# Altium schematic symbol library PIC16(L)F1526_7.Schlib: 1 symbol
Pins are listed as number, name and electrical type; pins without a type are passive.

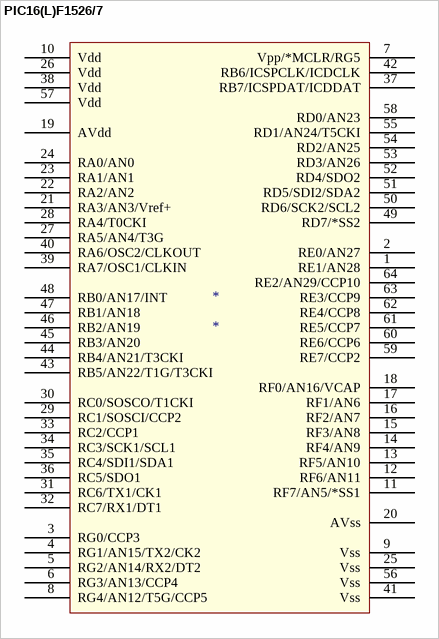
[diagram p0: symbol PIC16(L)F1526/7]

## PIC16(L)F1526/7
designator *
pins: 1 RE1/AN28, 2 RE0/AN27, 3 RG0/CCP3, 4 RG1/AN15/TX2/CK2, 5 RG2/AN14/RX2/DT2, 6 RG3/AN13/CCP4, 7 Vpp/*MCLR/RG5, 8 RG4/AN12/T5G/CCP5, 9 Vss, 10 Vdd, 11 RF7/AN5/*SS1, 12 RF6/AN11, 13 RF5/AN10, 14 RF4/AN9, 15 RF3/AN8, 16 RF2/AN7, 17 RF1/AN6, 18 RF0/AN16/VCAP, 19 AVdd, 20 AVss, 21 RA3/AN3/Vref+, 22 RA2/AN2, 23 RA1/AN1, 24 RA0/AN0, 25 Vss, 26 Vdd, 27 RA5/AN4/T3G, 28 RA4/T0CKI, 29 RC1/SOSCI/CCP2, 30 RC0/SOSCO/T1CKI, 31 RC6/TX1/CK1, 32 RC7/RX1/DT1, 33 RC2/CCP1, 34 RC3/SCK1/SCL1, 35 RC4/SDI1/SDA1, 36 RC5/SDO1, 37 RB7/ICSPDAT/ICDDAT, 38 Vdd, 39 RA7/OSC1/CLKIN, 40 RA6/OSC2/CLKOUT, 41 Vss, 42 RB6/ICSPCLK/ICDCLK, 43 RB5/AN22/T1G/T3CKI, 44 RB4/AN21/T3CKI, 45 RB3/AN20, 46 RB2/AN19, 47 RB1/AN18, 48 RB0/AN17/INT, 49 RD7/*SS2, 50 RD6/SCK2/SCL2, 51 RD5/SDI2/SDA2, 52 RD4/SDO2, 53 RD3/AN26, 54 RD2/AN25, 55 RD1/AN24/T5CKI, 56 Vss, 57 Vdd, 58 RD0/AN23, 59 RE7/CCP2, 60 RE6/CCP6, 61 RE5/CCP7, 62 RE4/CCP8, 63 RE3/CCP9, 64 RE2/AN29/CCP10